# EAGLE library part MICROFIT-6-RCPT-BMI (library Molex)
Molex Micro-Fit BMI (blind-mate interface) header, 6 circuits, right-angle, through-hole Datasheet: http://www.molex.com/pdm_docs/sd/444280602_sd.pdf
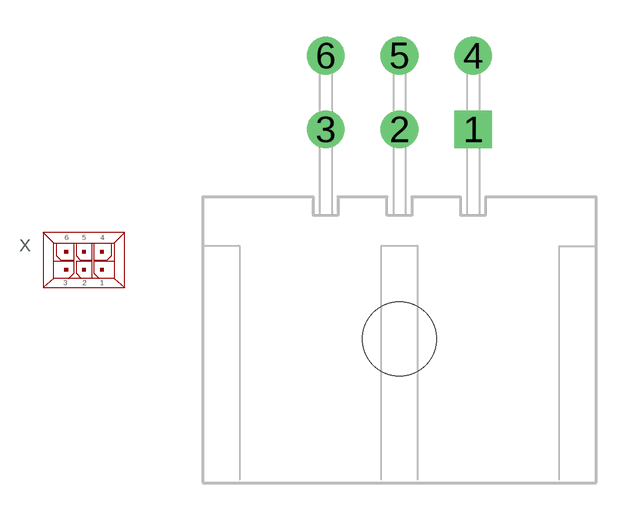
[diagram p19: symbol with the pads of MICROFIT-6-BMI-THROUGH_HOLE-RA-PEG_RETENTION; footprint MICROFIT-6-BMI-THROUGH_HOLE-RA-PEG_RETENTION]

Designator prefix X

## MICROFIT-6-RCPT-BMI-RA (PARTNO: 44428-0602)  [MICROFIT-6-BMI-THROUGH_HOLE-RA-PEG_RETENTION]
1  1  pas
2  2  pas
3  3  pas
4  4  pas
5  5  pas
6  6  pas

## Footprint MICROFIT-6-BMI-THROUGH_HOLE-RA-PEG_RETENTION (pad centres in mm)
Molex Micro-Fit BMI (blind-mate interface) header, 6 circuits, right-angle, through-hole Datasheet: http://www.molex.com/pdm_docs/sd/444280602_sd.pdf
drill 1.02 square: 1 3,-1.5
drill 1.02 round: 2 0,-1.5; 3 -3,-1.5; 4 3,1.5; 5 0,1.5; 6 -3,1.5
hole 3 at 0,-10.03